# Altium footprint library HTSSOP-28.PcbLib: 1 footprints
Each footprint in its own frame and in the unit in brackets; x right, y up, seen from the top. Pads: shape width x height; smd on the part's side, far side on the other; paste and mask are expansions set on the pad; w line width, h text height; cw(c..) or ccw(c..) is an arc to the next point about the centre after c.
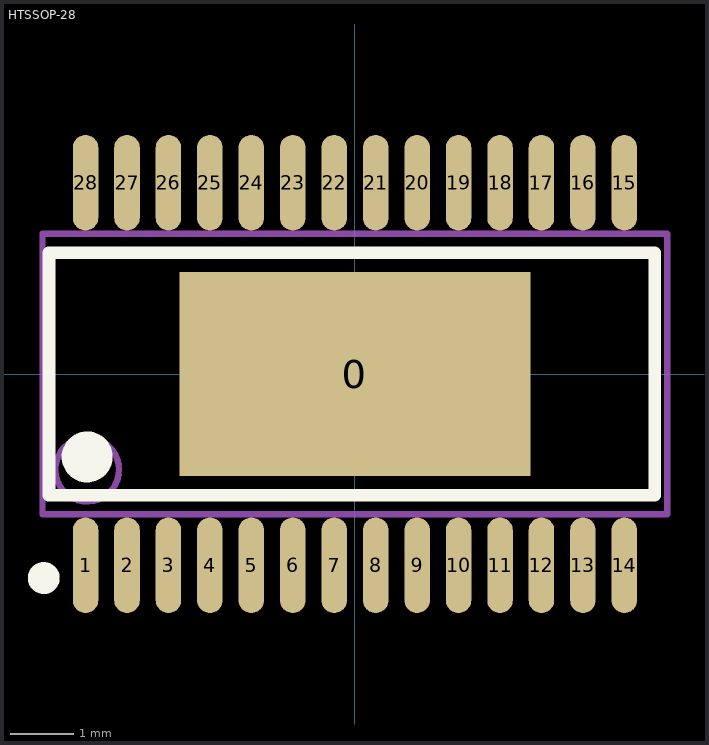
[diagram p0: the footprint, top view; thin cyan lines are the x and y axes]

## HTSSOP-28 [mm]
pads (29):
  rect 5.5x3.2 smd mask+0.051: 0(0,0)
  oval 0.4x1.5 smd: 1(-4.225,-3) 2(-3.575,-3) 3(-2.925,-3) 4(-2.275,-3) 5(-1.625,-3) 6(-0.975,-3) 7(-0.325,-3) 8(0.325,-3) 9(0.975,-3) 10(1.625,-3) 11(2.275,-3) 12(2.925,-3) 13(3.575,-3) 14(4.225,-3) 15(4.225,3) 16(3.575,3) 17(2.925,3) 18(2.275,3) 19(1.625,3) 20(0.975,3) 21(0.325,3) 22(-0.325,3) 23(-0.975,3) 24(-1.625,3) 25(-2.275,3) 26(-2.925,3) 27(-3.575,3) 28(-4.225,3)
Top Overlay:
  circle w0.25: c-4.88,-3.2 r0.125
  circle w0.4: c-4.2,-1.3 r0.2
  lines w0.2: -4.8,-1.9 4.7,-1.9 4.7,1.9 -4.8,1.9 -4.8,-1.9
Mechanical 13:
  circle w0.1: c-4.2,-1.5 r0.5
  lines w0.1: -4.9,-2.2 -4.9,2.2 4.9,2.2 4.9,-2.2 -4.9,-2.2
3D body: height 0.97, standoff -0.02, extent -4.85,-3.2 4.85,3.2